# Altium footprint library con-shiua-chyuan.PCBLIB: 1 footprints
Each footprint in its own frame and in the unit in brackets; x right, y up, seen from the top. Pads: shape width x height; smd on the part's side, far side on the other; paste and mask are expansions set on the pad; w line width, h text height; cw(c..) or ccw(c..) is an arc to the next point about the centre after c.
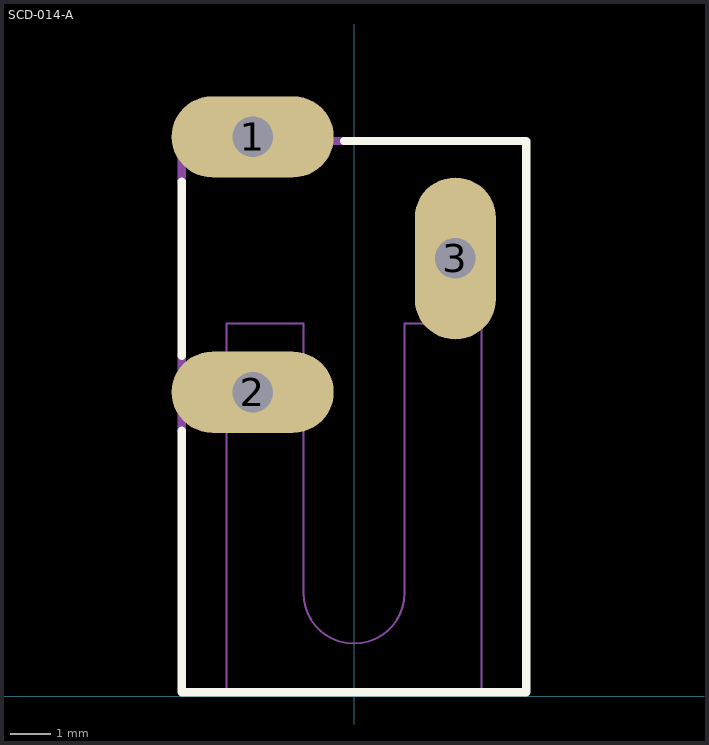
[diagram p0: the footprint, top view; thin cyan lines are the x and y axes]

## SCD-014-A [mm]
pads (3):
  oval 4x2 hole 1: 1(-2.5,13.8) 2(-2.5,7.5)
  oval 2x4 hole 1: 3(2.5,10.8)
Top Overlay:
  lines w0.203: -4.25,6.55 -4.25,0.1 4.25,0.1 4.25,13.7 -0.25,13.7 ; -4.25,8.4 -4.25,12.7
Mechanical 11:
  lines w0: -4.1,7.5 cw(c-3.6,7.5) -3.6,8 -1.4,8 cw(c-1.4,7.5) -0.9,7.5 cw(c-1.4,7.5) -1.4,7 -3.6,7 cw(c-3.6,7.5) -4.1,7.5 ; -4.1,13.8 cw(c-3.6,13.8) -3.6,14.3 -1.4,14.3 cw(c-1.4,13.8) -0.9,13.8 cw(c-1.4,13.8) -1.4,13.3 -3.6,13.3 cw(c-3.6,13.8) -4.1,13.8 ; 2,9.7 ccw(c2.5,9.7) 2.5,9.2 ccw(c2.5,9.7) 3,9.7 3,11.9 ccw(c2.5,11.9) 2.5,12.4 ccw(c2.5,11.9) 2,11.9 2,9.7
Mechanical 16:
  lines w0.05: -3.15,0.15 -3.15,9.2 -1.25,9.2 -1.25,2.55 ccw(c0,2.55) 0,1.3 ccw(c0,2.55) 1.25,2.55 1.25,9.2 3.15,9.2 3.15,0.15
  lines w0.203: -4.25,6.55 -4.25,8.4 ; -4.25,12.7 -4.25,13.7 -0.25,13.7